# EAGLE library part 750817251 (library wurth_electronics_midcom_inc_v2-1)
Package Style: ER28/14 Mounting: THT Pins: 12 pins Bobbin: 070-4869 Best pinouts for production vary per application. Please contact Wurth Electronics Midcom, Inc. for assistance with your custom design. Website: Wurth Electronics Midcom <http://www.we-online.com/midcom> Contact us Wurth Electronics Midcom, Inc. 121 Airport Dr. Watertown, SD 57201 Phone: (605) 886-4385 Fax: (605) 886-4486 E-Mail: midcom@we-online.com
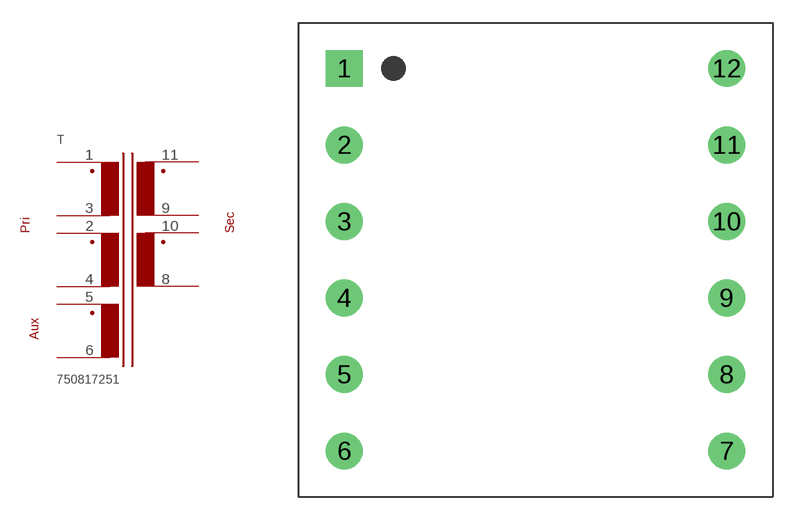
[diagram p289: symbol with the pads of ER28/14_THT_H_12PIN_(4869); footprint ER28/14_THT_H_12PIN_(4869)]

Designator prefix T

## 750817251  [ER28/14_THT_H_12PIN_(4869)]
1  1  pas
2  2  pas
3  3  pas
4  4  pas
5  5  pas
6  6  pas
8  8  pas
9  9  pas
10  10  pas
11  11  pas

## Footprint ER28/14_THT_H_12PIN_(4869) (pad centres in mm)
Package Style: ER28/14 Mounting: THT Pins: 12 Bobbin: 070-4869
drill 1.6 square: 1 -12.497,12.509
drill 1.6: 2 -12.497,7.506; 3 -12.497,2.502; 4 -12.497,-2.502; 5 -12.497,-7.506; 6 -12.497,-12.509; 7 12.497,-12.509; 8 12.497,-7.506; 9 12.497,-2.502; 10 12.497,2.502; 11 12.497,7.506; 12 12.497,12.509